# Altium footprint library Wifi-Vista_NW.PcbLib: 4 footprints
Each footprint in its own frame and in the unit in brackets; x right, y up, seen from the top. Pads: shape width x height; smd on the part's side, far side on the other; paste and mask are expansions set on the pad; w line width, h text height; cw(c..) or ccw(c..) is an arc to the next point about the centre after c.
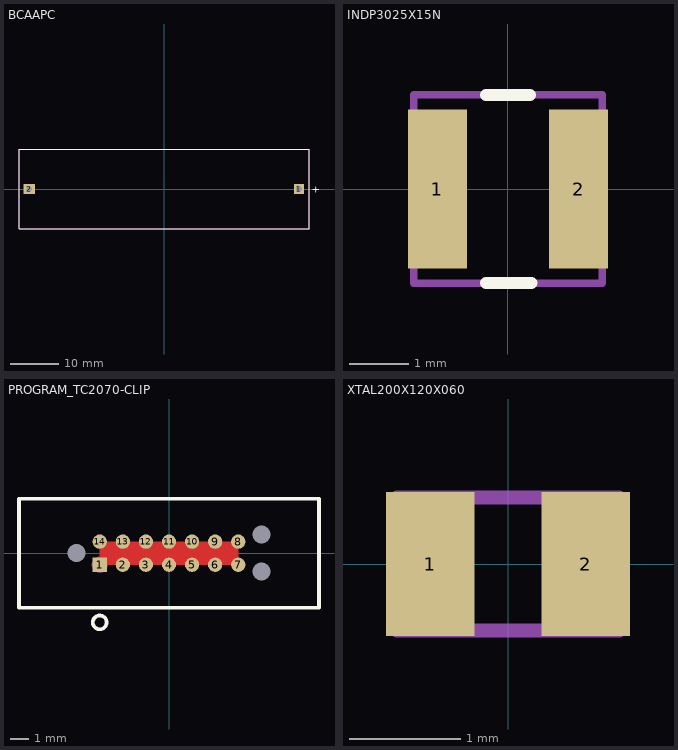
[diagram p0: the footprints below, top view; thin cyan lines are the x and y axes]

## BCAAPC [mm]
height 13.25
pads (2):
  rect 2.1x2.1 hole 1.2: 1(27.75,0)
  rect 2.4x2.1 hole 1.2: 2(-27.75,0)
Top Overlay:
  lines w0.203: -29.845,-8.204 29.845,-8.204 29.845,8.204 -29.845,8.204 -29.845,-8.204
  text "+" at 30.35,-0.775 h1.52
Mechanical 1:
  text "'.Designator'" at 0,0 h2.54
Mechanical 15:
  lines w0.127: -29.85,-8.2 -29.85,8.2 29.85,8.2 29.85,-8.2 -29.85,-8.2
  text "+" at 27.175,-0.7 h1.52
3D body "User Library-BCAAPC.STEP": height 16.7, standoff 0, extent -29.956,-8.025 29.744,7.975

## INDP3025X15N [mm] "Precision Wire Wound Inductor, 2-Leads, Body 3.00x2.50mm, IPC Medium Density"
height 1.5
pads (2):
  rect 1x2.7 smd: 1(-1.2,0) 2(1.2,0)
Top Overlay:
  lines w0.203: -0.375,-1.6 0.4,-1.6 ; -0.375,1.6 0.375,1.6
Mechanical 1:
  text "'.Designator'" at 0,0 h0.64
Mechanical 15:
  lines w0.127: -1.6,-1.6 1.6,-1.6 1.6,1.6 -1.6,1.6 -1.6,0 -1.6,-1.6
3D body "INDP3025X15N.step": height 1.6, standoff 0, extent -1.6,-1.35 1.6,1.35

## PROGRAM_TC2070-CLIP [mm]
height 6
pads (17):
  round 0 hole 0.99 unplated: 0(-5.08,0) 0(5.08,-1.016) 0(5.08,1.016)
  rect 0.787x0.787 smd: 1(-3.81,-0.635)
  round 0.787 smd: 2(-2.54,-0.635) 3(-1.27,-0.635) 4(0,-0.635) 5(1.27,-0.635) 6(2.54,-0.635) 7(3.81,-0.635) 8(3.81,0.635) 9(2.54,0.635) 10(1.27,0.635) 11(0,0.635) 12(-1.27,0.635) 13(-2.54,0.635) 14(-3.81,0.635)
Top Layer:
  pour cut-out: -3.81,0.635 3.81,0.635 3.81,-0.635 -3.81,-0.635
Top Overlay:
  circle w0.203: c-3.81,-3.81 r0.381
  lines w0.203: -8.255,-2.997 -8.255,2.997 8.255,2.997 8.255,-2.997 -8.255,-2.997
Mechanical 1:
  text "'.Designator'" at 0,0 h2.54
Mechanical 15:
  circle w0.127: c-3.81,-0.635 r0.381
  lines w0.127: -8.25,-3 8.25,-3 8.25,3 -8.25,3 -8.25,-3

## XTAL200X120X060 [mm]
height 0.6
pads (2):
  rect 0.8x1.3 smd: 1(-0.7,0) 2(0.7,0)
Mechanical 1:
  text "'.Designator'" at 0,0 h0.64
Mechanical 15:
  lines w0.127: -1,-0.6 -1,0.6 1,0.6 1,-0.6 -1,-0.6
3D body: height 0.6, standoff 0, extent -1,-0.6 1,0.6